# Altium footprint library PcbLib1.PcbLib: 259 footprints (part 11 of 17)
Each footprint in its own frame and in the unit in brackets; x right, y up, seen from the top. Pads: shape width x height; smd on the part's side, far side on the other; paste and mask are expansions set on the pad; w line width, h text height; cw(c..) or ccw(c..) is an arc to the next point about the centre after c.
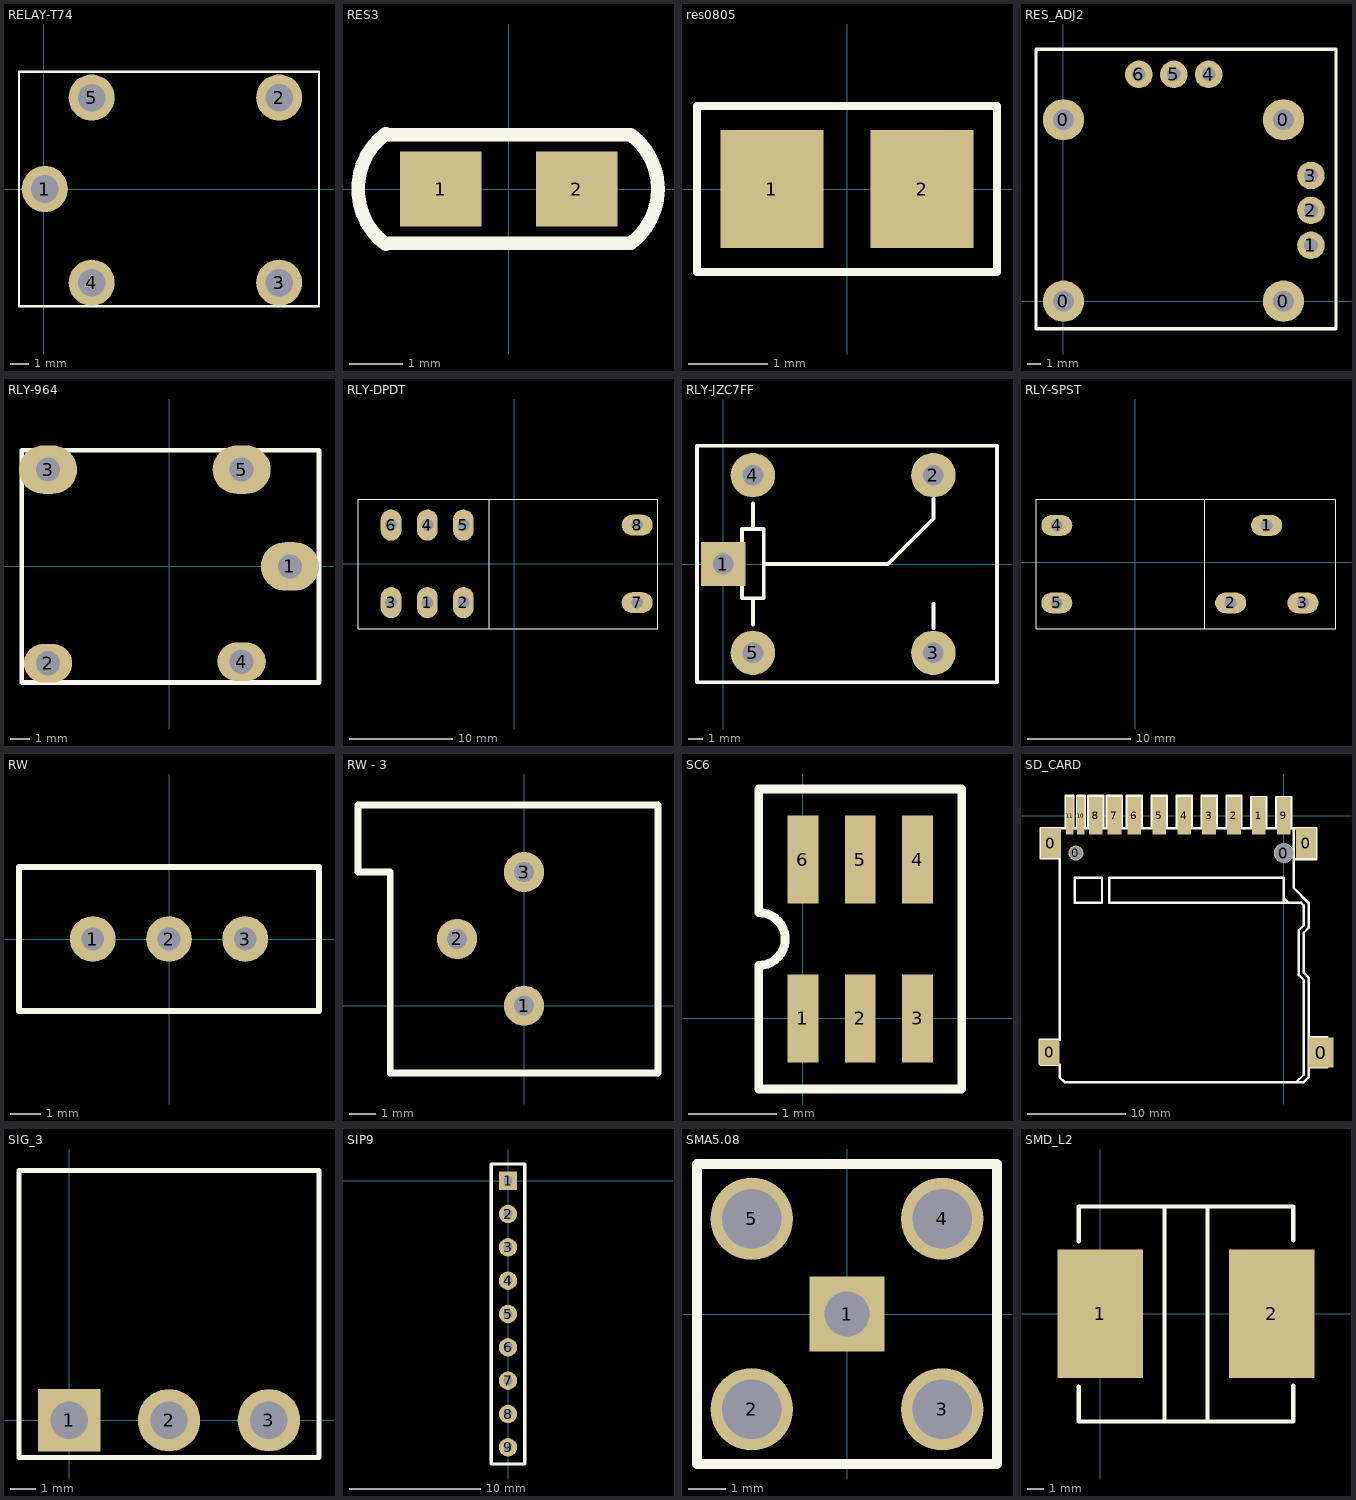
[diagram p10: the footprints below, top view; thin cyan lines are the x and y axes]

## RELAY-T74 [mm]
pads (5):
  round 2.5 hole 1.5: 1(0.051,0) 2(12.751,4.953) 3(12.751,-5.08) 4(2.591,-5.08) 5(2.591,4.953)
Top Overlay:
  lines w0.127: -1.346,-6.35 -1.346,6.35 14.91,6.35 14.91,-6.35 -1.346,-6.35

## RES3 [mil]
pads (2):
  rect 60x55 smd: 1(-50,0) 2(50,0)
Top Overlay:
  lines w10: -90.59,-40.79 cw(c-60,0) -90.59,40.79 ; -90,-40 90,-40 ccw(c60,0) 90,40 -90,40

## res0805 [mm]
pads (2):
  rect 1.3x1.5 smd: 1(-0.95,0) 2(0.95,0)
Top Overlay:
  lines w0.1: -1.9,-1.05 -1.9,1.05 1.9,1.05 1.9,-1.05 -1.9,-1.05

## RES_ADJ2 [mm]
pads (10):
  round 3 hole 1.5: 0(0,0) 0(0,13.2) 0(16,0) 0(16,13.2)
  round 2 hole 1: 1(18,4.06) 2(18,6.6) 3(18,9.14) 4(10.56,16.5) 5(8.02,16.5) 6(5.48,16.5)
Top Overlay:
  lines w0.254: -2,-2 19.82,-2 19.82,18.32 -2,18.32 -2,-2

## RLY-964 [mil]
pads (5):
  oval 120x100 hole 50: 1(250,0) 3(-250,200) 5(150,200)
  oval 100x80 hole 50: 2(-250,-200) 4(150,-196.85)
Top Overlay:
  lines w10: -304.17,-240 -304.17,240 310,240 310,0 310,-240 -304.17,-240

## RLY-DPDT [mil]
pads (8):
  oval 79x118 hole 45: 1(-330.5,-147.5) 2(-193.5,-147.5) 3(-468.5,-147.5) 4(-330.5,147.5) 5(-193.5,147.5) 6(-468.5,147.5)
  oval 118x79 hole 45: 7(468.5,-147.5) 8(468.5,147.5)
Top Overlay:
  lines w4: -94.5,-246.5 -94.5,245.5 ; -594.5,-246.5 -594.5,245.5 547.5,245.5 547.5,-246.5 -594.5,-246.5

## RLY-JZC7FF [mm]
pads (5):
  rect 3x3 hole 1.4: 1(0,0)
  round 3 hole 1.4: 2(14.2,6) 3(14.2,-6) 4(2,6) 5(2,-6)
Top Overlay:
  lines w0.254: 2,-4.1 2,-2.4 ; 2,2.4 2,4.1 ; 2.73,0 10.53,0 ; 14.2,-4.32 14.2,-2.7 ; 14.2,4.41 14.2,3.06 11.14,0 10.53,0 ; 10.53,0 10.53,0 ; -1.78,-8 -1.78,8 18.5,8 18.5,-8 -1.78,-8 ; 1.26,-2.32 1.26,2.36 2.73,2.36 2.73,-2.32 1.26,-2.32

## RLY-SPST [mil]
pads (5):
  oval 118x79 hole 45: 1(500,140) 2(363,-155) 3(638,-155) 4(-299,140) 5(-299,-155)
Top Overlay:
  lines w4: 264,-253 264,239 ; -378,-253 764,-253 764,239 -378,239 -378,-253

## RW [mil]
pads (3):
  round 60 hole 30: 1(-100,0) 2(0,0) 3(100,0)
Top Overlay:
  lines w7.87: -196.85,-94.49 -196.85,94.49 196.85,94.49 196.85,-94.49 -196.85,-94.49

## RW - 3 [mil]
pads (3):
  round 60 hole 30: 1(0,0.39) 2(-100,100) 3(0,200)
Top Overlay:
  lines w10: -248.03,200 -248.03,300 200,300 200,-100 -200,-100 -200,200 -248.03,200

## SC6 [mm]
pads (6):
  rect 0.35x1 smd: 1(0,0) 2(0.65,0) 3(1.3,0) 4(1.3,1.8) 5(0.65,1.8) 6(0,1.8)
Top Overlay:
  lines w0.1: -0.5,-0.8 -0.5,0.6 ccw(c-0.5,0.9) -0.5,1.2 -0.5,2.6 1.8,2.6 1.8,-0.8 -0.5,-0.8

## SD_CARD [mil]
pads (17):
  rect 80x100 smd: 0(-940,-950)
  rect 80x120 smd: 0(-935,-110) 0(90,-110)
  round 60 hole 52: 0(-835,-150)
  round 80 hole 75: 0(0,-150)
  rect 100x120 smd: 0(149.63,-950.84)
  rect 55x150 smd: 1(-100,0) 2(-200,0) 3(-300,0) 4(-400,0) 5(-500,0) 6(-600,0) 7(-680,0) 8(-755,0) 9(0,0)
  rect 30x150 smd: 10(-815,0) 11(-860,0)
Top Overlay:
  lines w10: -875,-50 -875,80 -845,80 -845,-50 -900,-50 -975,-50 -975,-170 -900,-170 -900,-900 -980,-900 -980,-995 -975,-1000 -900,-1000 -900,-1050 -880,-1070 -870,-1070 80,-1070 100,-1050 100,-650 80,-630 80,-470 100,-450 100,-440 100,-370 100,-350 40,-290 40,-60 40,-50 ; -850,-50 40,-50 ; -830,-50 -830,80 -800,80 -800,-50 ; -785,-45 -785,80 -725,80 -725,-45 ; -750,-350 -730,-350 -730,-250 -840,-250 -840,-350 -740,-350 ; -710,-45 -710,80 -650,80 -650,-45 ; -630,-45 -630,80 -570,80 -570,-45 ; -530,-45 -530,80 -470,80 -470,-45 ; -430,-45 -430,80 -370,80 -370,-45 ; -330,-45 -330,80 -270,80 -270,-45 ; -230,-45 -230,80 -170,80 -170,-45 ; -130,-50 -130,75 -70,75 -70,-50 ; -30,-50 -30,75 30,75 30,-50 ; 0,-330 20,-350 ; 40,-175 130,-175 130,-50 40,-50 ; 50,-1070 80,-1040 80,-670 80,-660 60,-640 60,-460 80,-440 80,-360 70,-350 0,-350 ; 100,-1010 175,-1010 ; 100,-890 175,-890 ; 0,-350 -700,-350 -700,-250 0,-250 0,-340 0,-350

## SIG_3 [mm]
pads (3):
  rect 2.5x2.5 hole 1.5: 1(0,0)
  round 2.5 hole 1.5: 2(4,0) 3(8,0)
Top Overlay:
  lines w0.2: -2,-1.5 -2,10 10,10 10,-1.5 -2,-1.5

## SIP9 [mil]
pads (9):
  rect 55x55 hole 28: 1(0,0)
  round 55 hole 28: 2(0,-100) 3(0,-200) 4(0,-300) 5(0,-400) 6(0,-500) 7(0,-600) 8(0,-700) 9(0,-800)
Top Overlay:
  lines w10: -50,-850 -50,50 50,50 50,-850 -50,-850

## SMA5.08 [mm]
pads (5):
  rect 2x2 hole 1.2: 1(0,0)
  round 2.2 hole 1.6: 2(-2.54,-2.54) 3(2.54,-2.54) 4(2.54,2.54) 5(-2.54,2.54)
Top Overlay:
  lines w0.254: -4,-4 -4,4 4,4 4,-4 -4,-4

## SMD_L2 [mm]
pads (2):
  rect 5.08x7.62 smd: 1(0,0) 2(10.16,0)
Top Overlay:
  lines w0.254: -1.27,-4.33 -1.27,-6.4 11.39,-6.4 ; -1.27,4.28 -1.27,6.35 11.43,6.35 11.43,4.34 ; 3.81,-6.39 3.81,6.35 ; 6.35,-6.39 6.35,6.35 ; 11.43,-6.4 11.43,-4.28